# Altium footprint library CAP_0.1uF_0603.PcbLib: 1 footprints
Each footprint in its own frame and in the unit in brackets; x right, y up, seen from the top. Pads: shape width x height; smd on the part's side, far side on the other; paste and mask are expansions set on the pad; w line width, h text height; cw(c..) or ccw(c..) is an arc to the next point about the centre after c.
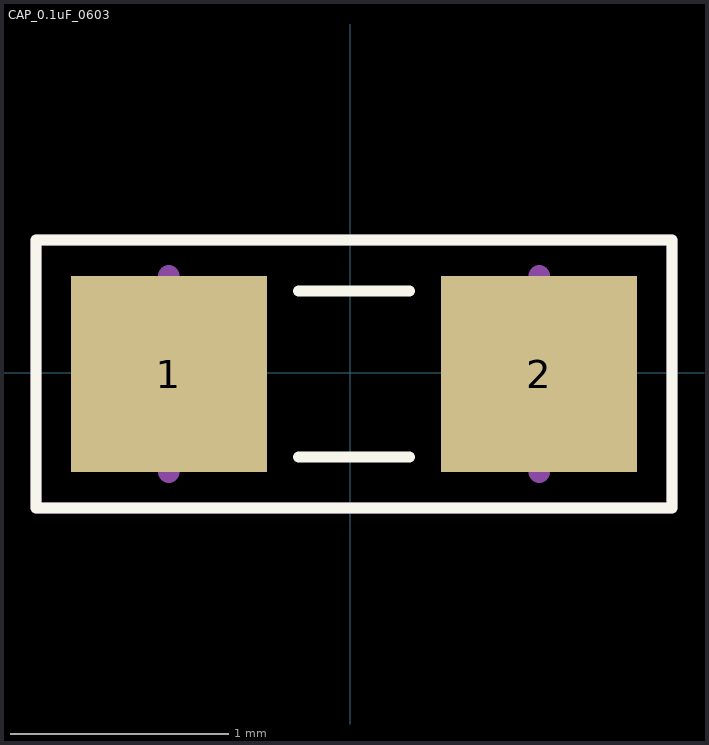
[diagram p0: the footprint, top view; thin cyan lines are the x and y axes]

## CAP_0.1uF_0603 [mm] "CAP CER 0.1UF 25V Y5V 0603"
pads (2):
  rect 0.9x0.9 smd: 1(-0.834,-0.005) 2(0.866,-0.005)
Top Overlay:
  lines w0.05: -0.238,-0.386 0.27,-0.386 ; -0.238,0.376 0.27,0.376 ; -1.444,-0.621 1.477,-0.621 1.477,0.611 -1.444,0.611 -1.444,-0.621
Mechanical 13:
  lines w0.1: -0.834,-0.455 -0.834,0.445 ; 0.866,-0.455 0.866,0.445
Assembly Notes:
  lines w0.05: -1.444,-0.621 -1.444,0.611 1.477,0.611 1.477,-0.621 -1.444,-0.621
  text ".designator" at -1.381,-0.14 h0.64
3D body "CAP_22pF_0603.STEP": height 0.81, standoff 0.01, extent -0.784,-0.455 0.816,0.445